# Altium footprint library Connectors.PcbLib: 202 footprints (part 1 of 13)
Each footprint in its own frame and in the unit in brackets; x right, y up, seen from the top. Pads: shape width x height; smd on the part's side, far side on the other; paste and mask are expansions set on the pad; w line width, h text height; cw(c..) or ccw(c..) is an arc to the next point about the centre after c.
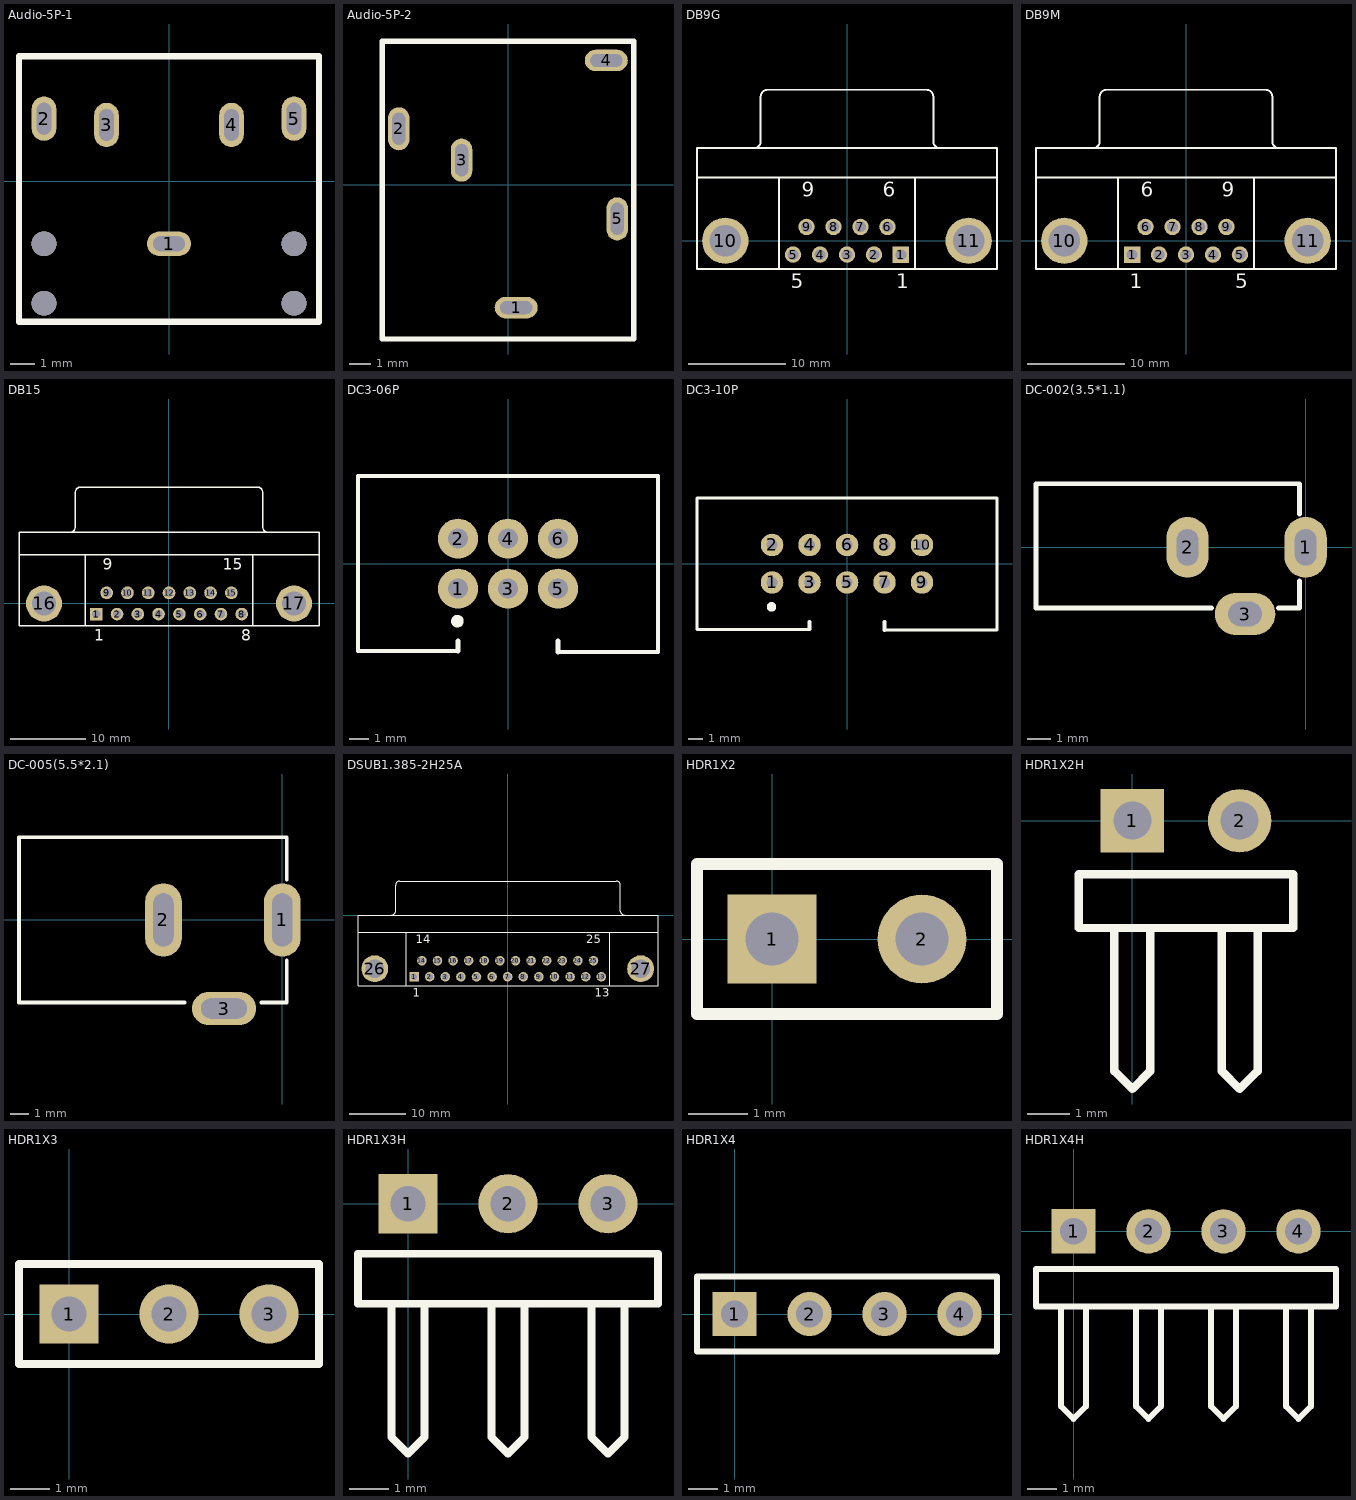
[diagram p0: the footprints below, top view; thin cyan lines are the x and y axes]

## Audio-5P-1 [mm]
pads (5):
  oval 1.8x1 hole 0.6 slot 1.3 at 0 deg: 1(0,-2.54)
  oval 1x1.8 hole 1.3 slot 0.6 at 0 deg: 2(-5.08,2.54) 3(-2.54,2.286) 4(2.54,2.286) 5(5.08,2.54)
via -5.08,-2.54 diameter 1 hole 1
via -5.08,-4.953 diameter 1 hole 1
via 5.08,-4.953 diameter 1 hole 1
via 5.08,-2.54 diameter 1 hole 1
Top Overlay:
  lines w0.254: -6.096,-5.715 6.096,-5.715 6.096,5.08 -6.096,5.08 -6.096,-5.715

## Audio-5P-2 [mm]
pads (5):
  oval 2x1 hole 1.5 slot 0.6 at 90 deg: 1(0.381,-5.715) 4(4.572,5.779)
  oval 1x2 hole 1.5 slot 0.6 at 0 deg: 2(-5.08,2.603) 3(-2.159,1.143) 5(5.08,-1.587)
Top Overlay:
  lines w0.254: -5.842,-7.175 5.842,-7.175 5.842,6.667 -5.842,6.667 -5.842,-7.175

## DB9G [mm] "Connector; D Subminiature; 9 Position; Right Angle; Pitch 1.385 mm"
height 12.75
pads (11):
  rect 1.69x1.69 hole 1.09: 1(5.54,-1.42)
  round 1.69 hole 1.09: 2(2.77,-1.42) 3(0,-1.42) 4(-2.77,-1.42) 5(-5.54,-1.42) 6(4.155,1.42) 7(1.385,1.42) 8(-1.385,1.42) 9(-4.155,1.42)
  round 4.76 hole 3.26: 10(-12.495,0) 11(12.495,0)
Top Overlay:
  lines w0.2: -15.4,6.5 15.4,6.5 ; -9.56,9.505 ccw(c-9.56,10.2) -8.865,10.2 -8.865,14.8 ; -8.86,14.805 cw(c-8.165,14.805) -8.165,15.5 8.165,15.5 cw(c8.165,14.805) 8.86,14.805 ; -7,-2.9 -7,6.5 ; 7,-2.9 7,6.5 ; 8.865,14.8 8.865,10.2 ccw(c9.56,10.2) 9.56,9.505 ; -15.4,-2.9 15.4,-2.9 15.4,9.5 -15.4,9.5 -15.4,-2.9
  text "9" at -4.655,4.525 h1.5
  text "6" at 3.655,4.525 h1.5
  text "1" at 5.04,-4.875 h1.5
  text "5" at -5.79,-4.875 h1.5

## DB9M [mm] "Connector; D Subminiature; 9 Position; Right Angle; Pitch 1.385 mm"
height 12.75
pads (11):
  rect 1.69x1.69 hole 1.09: 1(-5.54,-1.42)
  round 1.69 hole 1.09: 2(-2.77,-1.42) 3(0,-1.42) 4(2.77,-1.42) 5(5.54,-1.42) 6(-4.155,1.42) 7(-1.385,1.42) 8(1.385,1.42) 9(4.155,1.42)
  round 4.76 hole 3.26: 10(-12.495,0) 11(12.495,0)
Top Overlay:
  lines w0.2: -15.4,6.5 15.4,6.5 ; -9.56,9.505 ccw(c-9.56,10.2) -8.865,10.2 -8.865,14.8 ; -8.86,14.805 cw(c-8.165,14.805) -8.165,15.5 8.165,15.5 cw(c8.165,14.805) 8.86,14.805 ; -7,-2.9 -7,6.5 ; 7,-2.9 7,6.5 ; 8.865,14.8 8.865,10.2 ccw(c9.56,10.2) 9.56,9.505 ; -15.4,-2.9 -15.4,9.5 15.4,9.5 15.4,-2.9 -15.4,-2.9
  text "1" at -5.79,-4.875 h1.5
  text "5" at 5.04,-4.875 h1.5
  text "9" at 3.655,4.525 h1.5
  text "6" at -4.655,4.525 h1.5

## DB15 [mm] "Connector; D Subminiature; 15 Position; Right Angle; Pitch 1.385 mm"
height 12.75
pads (17):
  rect 1.69x1.69 hole 1.09: 1(-9.695,-1.42)
  round 1.69 hole 1.09: 2(-6.925,-1.42) 3(-4.155,-1.42) 4(-1.385,-1.42) 5(1.385,-1.42) 6(4.155,-1.42) 7(6.925,-1.42) 8(9.695,-1.42) 9(-8.31,1.42) 10(-5.54,1.42) 11(-2.77,1.42) 12(0,1.42) 13(2.77,1.42) 14(5.54,1.42) 15(8.31,1.42)
  round 4.8 hole 3.18: 16(-16.66,0) 17(16.66,0)
Top Overlay:
  lines w0.2: -20,6.5 20,6.5 ; -13.195,9.505 ccw(c-13.195,10.2) -12.5,10.2 -12.5,14.8 ; -12.495,14.805 cw(c-11.8,14.805) -11.8,15.5 11.8,15.5 cw(c11.8,14.805) 12.495,14.805 ; -11.14,-3 -11.14,6.5 ; 11.14,-3 11.14,6.5 ; 12.5,14.8 12.5,10.2 ccw(c13.195,10.2) 13.195,9.505 ; -20,-3 -20,9.5 20,9.5 20,-3 -20,-3
  text "1" at -9.945,-4.975 h1.5
  text "8" at 9.652,-4.975 h1.5
  text "15" at 7.185,4.525 h1.5
  text "9" at -8.81,4.525 h1.5

## DC3-06P [mil]
pads (6):
  round 80 hole 40: 1(-100,-50) 2(-100,50) 3(0,-50) 4(0,50) 5(100,-50) 6(100,50)
Top Overlay:
  circle w15: c-101.21,-115 r5
  lines w7.87: -100,-175 -300,-175 -300,175 300,175 300,-176.46 100,-176.46
  lines w10: -100,-175 -100,-155 ; 100,-176.46 100,-155

## DC3-10P [mil]
pads (10):
  round 60 hole 30: 1(-200,-50) 2(-200,50) 3(-100,-50) 4(-100,50) 5(0,-50) 6(0,50) 7(100,-50) 8(100,50) 9(200,-50) 10(200,50)
Top Overlay:
  circle w15: c-201.21,-115 r5
  lines w7.87: -100,-175 -400,-175 -400,175 400,175 400,-176.46 100,-176.46
  lines w10: -100,-175 -100,-155 ; 100,-176.46 100,-155

## DC-002(3.5*1.1) [mil]
pads (3):
  oval 70x100 hole 60 slot 35.43 at 0 deg: 1(0,0) 2(-195,0)
  oval 100x70 hole 40 slot 55.12 at 0 deg: 3(-100,-110)
Top Overlay:
  lines w7.87: -155,-100 -445,-100 -445,105 -10.2,105 -10.2,55 ; -45,-100 -10.2,-100 -10.2,-55

## DC-005(5.5*2.1) [mm]
pads (3):
  oval 2x4 hole 2.9 slot 1.1 at 0 deg: 1(0,0) 2(-6.477,0)
  oval 3.5x1.8 hole 1.1 slot 2.5 at 0 deg: 3(-3.175,-4.826)
Top Overlay:
  lines w0.2: -5.334,-4.5 -14.351,-4.5 -14.351,4.5 0.249,4.5 0.249,2.2 ; -1.143,-4.5 0.249,-4.5 0.249,-2.2

## DSUB1.385-2H25A [mm] "Connector; D Subminiature; 25 Position; Right Angle; Pitch 1.385 mm"
height 12.93
pads (27):
  rect 1.69x1.69 hole 1.09: 1(-16.566,-10.92)
  round 1.69 hole 1.09: 2(-13.805,-10.92) 3(-11.044,-10.92) 4(-8.283,-10.92) 5(-5.522,-10.92) 6(-2.761,-10.92) 7(0,-10.92) 8(2.761,-10.92) 9(5.522,-10.92) 10(8.283,-10.92) 11(11.044,-10.92) 12(13.805,-10.92) 13(16.566,-10.92) 14(-15.185,-8.08) 15(-12.424,-8.08) 16(-9.663,-8.08) 17(-6.902,-8.08) 18(-4.141,-8.08) 19(-1.38,-8.08) 20(1.381,-8.08) 21(4.142,-8.08) 22(6.903,-8.08) 23(9.664,-8.08) 24(12.425,-8.08) 25(15.186,-8.08)
  round 4.76 hole 3.26: 26(-23.526,-9.5) 27(23.526,-9.5)
Top Overlay:
  lines w0.2: -26.496,-3 26.604,-3 ; -20.541,0.005 ccw(c-20.541,0.7) -19.846,0.7 -19.846,5.3 ; -19.841,5.305 cw(c-19.146,5.305) -19.146,6 19.254,6 cw(c19.254,5.305) 19.949,5.305 ; -17.946,-12.5 -17.946,-3 ; 18.054,-12.5 18.054,-3 ; 19.954,5.3 19.954,0.7 ccw(c20.649,0.7) 20.649,0.005 ; -26.496,-12.5 -26.496,0 26.604,0 26.604,-12.5 -26.496,-12.5
  text "25" at 13.936,-4.975 h1.5
  text "14" at -16.31,-4.975 h1.5
  text "13" at 15.441,-14.475 h1.5
  text "1" at -16.816,-14.475 h1.5

## HDR1X2 [mm] "Connector; Header; 2 Position"
pads (2):
  rect 1.5x1.5 hole 0.9: 1(0,0)
  round 1.5 hole 0.9: 2(2.54,0)
Top Overlay:
  lines w0.2: -1.27,-1.27 3.81,-1.27 3.81,1.27 -1.27,1.27 -1.27,-1.27

## HDR1X2H [mm] "Connector; Header; 2 Position; Right Angle"
pads (2):
  rect 1.5x1.5 hole 0.9: 1(0,0)
  round 1.5 hole 0.9: 2(2.54,0)
Top Overlay:
  lines w0.2: -0.423,-2.54 -0.423,-5.927 0,-6.35 0.423,-5.927 0.423,-2.54 ; 2.117,-2.54 2.117,-5.927 2.54,-6.35 2.963,-5.927 2.963,-2.54 ; -1.27,-2.54 -1.27,-1.27 3.81,-1.27 3.81,-2.54 -1.27,-2.54

## HDR1X3 [mm] "Connector; Header; 3 Position"
pads (3):
  rect 1.5x1.5 hole 0.9: 1(0,0)
  round 1.5 hole 0.9: 2(2.54,0) 3(5.08,0)
Top Overlay:
  lines w0.2: -1.27,-1.27 -1.27,1.27 6.35,1.27 6.35,-1.27 -1.27,-1.27

## HDR1X3H [mm] "Connector; Header; 3 Position; Right Angle"
pads (3):
  rect 1.5x1.5 hole 0.9: 1(0,0)
  round 1.5 hole 0.9: 2(2.54,0) 3(5.08,0)
Top Overlay:
  lines w0.2: -0.423,-2.54 -0.423,-5.927 0,-6.35 0.423,-5.927 0.423,-2.54 ; 2.117,-2.54 2.117,-5.927 2.54,-6.35 2.963,-5.927 2.963,-2.54 ; 4.657,-2.54 4.657,-5.927 5.08,-6.35 5.503,-5.927 5.503,-2.54 ; -1.27,-2.54 6.35,-2.54 6.35,-1.27 -1.27,-1.27 -1.27,-2.54

## HDR1X4 [mm] "Connector; Header; 4 Position"
pads (4):
  rect 1.5x1.5 hole 0.9: 1(0,0)
  round 1.5 hole 0.9: 2(2.54,0) 3(5.08,0) 4(7.62,0)
Top Overlay:
  lines w0.2: -1.27,-1.27 8.89,-1.27 8.89,1.27 -1.27,1.27 -1.27,-1.27

## HDR1X4H [mm] "Connector; Header; 4 Position; Right Angle"
pads (4):
  rect 1.5x1.5 hole 0.9: 1(0,0)
  round 1.5 hole 0.9: 2(2.54,0) 3(5.08,0) 4(7.62,0)
Top Overlay:
  lines w0.2: -0.423,-2.54 -0.423,-5.927 0,-6.35 0.423,-5.927 0.423,-2.54 ; 2.117,-2.54 2.117,-5.927 2.54,-6.35 2.963,-5.927 2.963,-2.54 ; 4.657,-2.54 4.657,-5.927 5.08,-6.35 5.503,-5.927 5.503,-2.54 ; 7.197,-2.54 7.197,-5.927 7.62,-6.35 8.043,-5.927 8.043,-2.54 ; -1.27,-2.54 8.89,-2.54 8.89,-1.27 -1.27,-1.27 -1.27,-2.54